# EAGLE library part ATWINC1500 (library we-chip)
Microchip ATWINC1500 WiFi/WLAN 802.11 b/g/n MR210PB - PCB antenna MR210UB - uFL connector WINC1500 - 4Mb Flash WINC1510 - 8Mb Flash
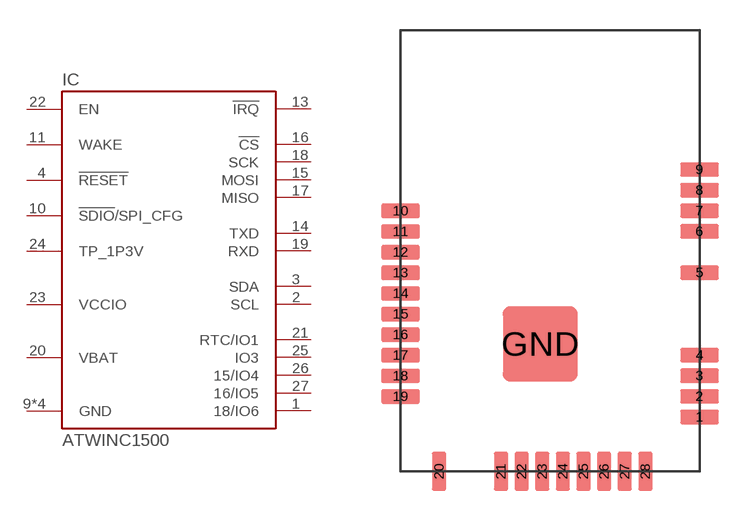
[diagram p20: symbol with the pads of ATWINC1500-MX210; footprint ATWINC1500-MX210]

Designator prefix IC

## ATWINC1500-MR210PB  [ATWINC1500-MX210]
1  18/IO6
2  SCL
3  SDA
4  !RESET  in
9  GND  pwr
10  !SDIO!/SPI_CFG  in
11  WAKE  in
12  GND  pwr
13  !IRQ  out
14  TXD  out
15  MOSI  in
16  !CS  in
17  MISO  out
18  SCK  in
19  RXD  in
20  VBAT  pwr
21  RTC/IO1
22  EN  in
23  VCCIO  pwr
24  TP_1P3V
25  IO3
26  15/IO4
27  16/IO5
28  GND  pwr
GND  GND  pwr

## ATWINC1500-MR210UB  [ATWINC1500-MX210]
Pads as for ATWINC1500-MX210

## Footprint ATWINC1500-MX210 (pad centres in mm)
smd 1.9 x 0.7: 1 7.365,-8.19; 2 7.365,-7.174; 3 7.365,-6.158; 4 7.365,-5.142; 5 7.365,-1.078; 6 7.365,0.954; 7 7.365,1.97; 8 7.365,2.986; 9 7.365,4.002; 10 -7.365,1.964; 11 -7.365,0.948; 12 -7.365,-0.068; 13 -7.365,-1.084; 14 -7.365,-2.1; 15 -7.365,-3.116; 16 -7.365,-4.132; 17 -7.365,-5.148; 18 -7.365,-6.164; 19 -7.365,-7.18
smd 0.7 x 1.9: 20 -5.465,-10.86; 21 -2.417,-10.86; 22 -1.401,-10.86; 23 -0.385,-10.86; 24 0.631,-10.86; 25 1.647,-10.86; 26 2.663,-10.86; 27 3.679,-10.86; 28 4.695,-10.86
smd 3.7 x 3.7: GND -0.485,-4.59